# Altium schematic symbol library MPU6050.SchLib: 1 symbol
Pins are listed as number, name and electrical type; pins without a type are passive.

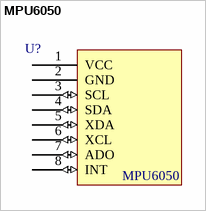
[diagram p0: symbol MPU6050]

## MPU6050
designator U?
footprint U?
pins: 1 VCC (power), 2 GND (power), 3 SCL (io), 4 SDA (io), 5 XDA (io), 6 XCL (io), 7 ADO (io), 8 INT (io)